# Altium schematic symbol library MAX.SchLib: 2 symbols
Pins are listed as number, name and electrical type; pins without a type are passive.

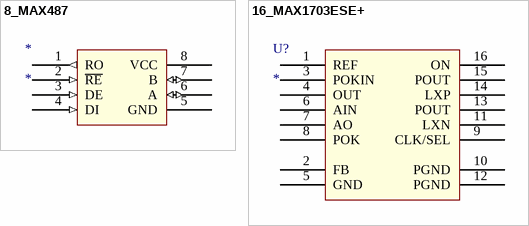
[diagram p0: symbols 8_MAX487 to 16_MAX1703ESE+]

## 8_MAX487
designator *
RS-485/RS-422 Transceiver, Half-Duplex, 250kbps, 5V
footprint MAX485
pins: 1 RO (out), 2 ~{RE} (in), 3 DE (in), 4 DI (in), 5 GND, 6 A (io), 7 B (io), 8 VCC

## 16_MAX1703ESE+
designator U?
DC-DC Boost Regulator, 0.7V-5.5V Vin, 1.5A, 16-SOIC
footprint SOIC127P600X175-16N (SOIC, 16-Leads, Body 9,90x3,90mm, Pitch 1,27mm, IPC Medium Density)
pins: 1 REF (power), 2 FB (power), 3 POKIN (power), 4 OUT (power), 5 GND (power), 6 AIN (power), 7 AO (power), 8 POK (power), 9 CLK/SEL (power), 10 PGND (power), 11 LXN (power), 12 PGND (power), 13 POUT (power), 14 LXP (power), 15 POUT (power), 16 ON (power)